# Altium footprint library PCBLib.PcbLib: 168 footprints (part 8 of 11)
Each footprint in its own frame and in the unit in brackets; x right, y up, seen from the top. Pads: shape width x height; smd on the part's side, far side on the other; paste and mask are expansions set on the pad; w line width, h text height; cw(c..) or ccw(c..) is an arc to the next point about the centre after c.
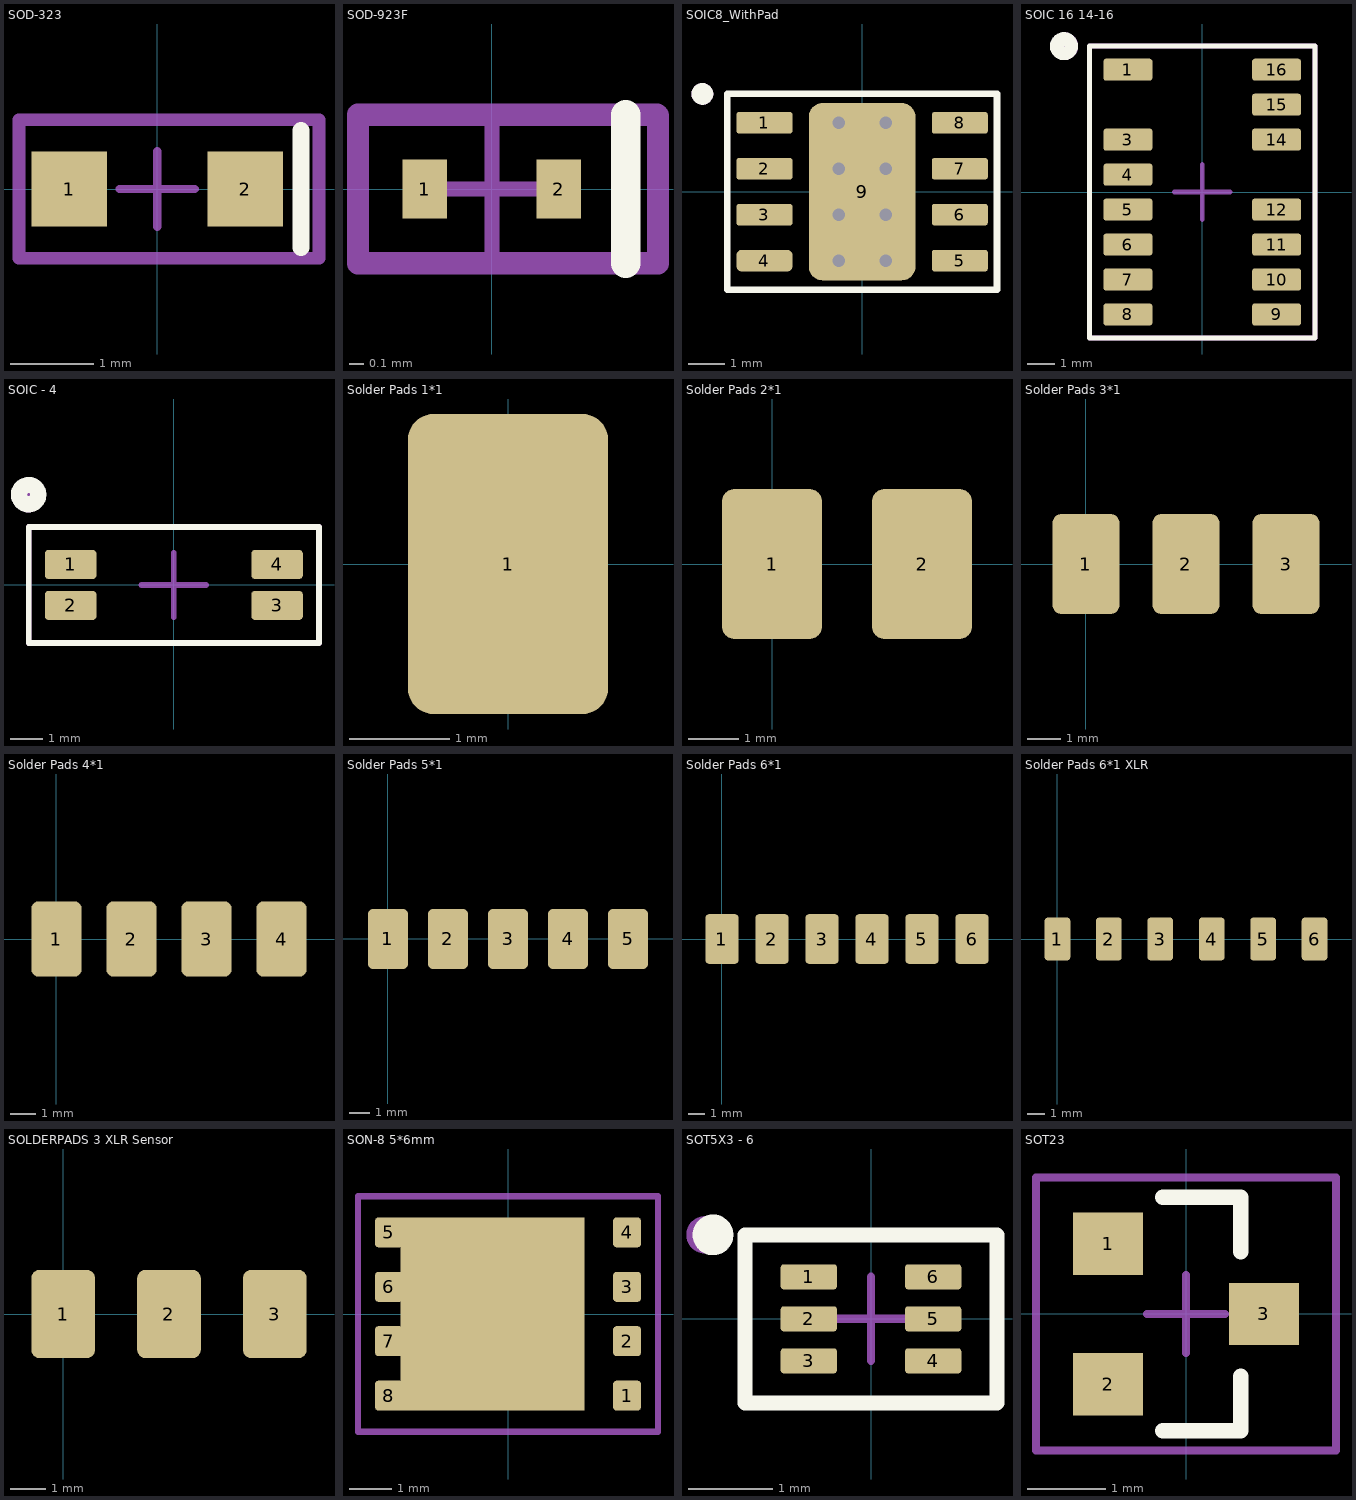
[diagram p7: the footprints below, top view; thin cyan lines are the x and y axes]

## SOD-323 [mm]
pads (2):
  rect 0.9x0.9 smd mask+0.05: 1(-1.05,0) 2(1.05,0)
Top Overlay:
  lines w0.2: 1.717,-0.7 1.717,0.275 1.717,0.7
Top Assembly:
  lines w0.15: 1.725,0.825 1.933,0.825 1.933,-0.825 1.717,-0.825 ; 1.717,-0.825 -1.65,-0.825 -1.65,0.825 1.717,0.825 1.717,-0.825
Top Component Center:
  lines w0.1: -0.45,0 0.45,0 ; 0,-0.45 0,0.45
Top Courtyard:
  lines w0.05: -1.65,-0.825 -1.65,0.825 1.717,0.825 1.717,-0.825 -1.65,-0.825
Top Designator:
  text ".Designator" at -3.809,-0.254 h0.76
3D body "SOD323_DIO.step": height 1.2, standoff 0, extent -1.346,-0.698 1.346,0.698

## SOD-923F [mm] "SODFL, 2-Leads, Body 0.60x1.00mm, IPC Medium Density"
height 0.4
pads (2):
  rect 0.3x0.4 smd: 1(-0.45,0) 2(0.45,0)
Top Overlay:
  lines w0.2: 0.9,-0.5 0.9,0.5
Top Assembly:
  lines w0.15: 0.9,-0.5 1.117,-0.5 1.117,0.493 1.11,0.5 0.9,0.5 ; 0.9,-0.5 0.9,0.5 ; 0.9,-0.5 -0.9,-0.5 -0.9,0.5 0.9,0.5
Top Component Center:
  lines w0.1: -0.5,0 0.5,0 ; 0,-0.5 0,0.5
Top Courtyard:
  lines w0.05: -0.9,-0.5 0.9,-0.5 0.9,0.5 -0.9,0.5 -0.9,-0.5
Top Designator:
  text ".Designator" at -3.809,-0.254 h0.76
3D body "CPDQ.step": height 0.82, standoff 0, extent -0.521,-0.33 0.521,0.33

## SOIC8_WithPad [mm] "LV14360"
pads (9):
  rrect25% 1.55x0.6 smd mask+0.05: 1(-2.7,1.905) 2(-2.7,0.635) 3(-2.7,-0.635) 5(2.7,-1.905) 6(2.7,-0.635) 7(2.7,0.635) 8(2.7,1.905)
  rrect50% 1.55x0.6 smd mask+0.05: 4(-2.7,-1.905)
  rrect25% 2.95x4.9 smd paste-2539.97 mask-2539.97: 9(0,0)
via -0.65,-1.905 diameter 0.7 hole 0.35
via 0.65,-1.905 diameter 0.7 hole 0.35
via 0.65,-0.635 diameter 0.7 hole 0.35
via -0.65,-0.635 diameter 0.7 hole 0.35
via -0.65,0.635 diameter 0.7 hole 0.35
via 0.65,0.635 diameter 0.7 hole 0.35
via 0.65,1.905 diameter 0.7 hole 0.35
via -0.65,1.905 diameter 0.7 hole 0.35
Top Overlay:
  circle w0.3: c-4.416,2.704 r0.15
  lines w0.18: -3.729,-2.704 3.729,-2.704 3.729,2.704 -3.729,2.704 -3.729,-2.704
Top Paste:
  region: -1.355,-1.7 -1.355,1.7 1.355,1.7 1.355,-1.7
Top Solder:
  region: -1.355,-1.7 -1.355,1.7 1.355,1.7 1.355,-1.7
Top Assembly:
  circle w0.3: c-4.416,2.704 r0.15
  lines w0.1: -3.729,-2.704 3.729,-2.704 3.729,2.704 -3.729,2.704 -3.729,-2.704
Top Component Center:
  lines w0.1: -0.5,0 0.5,0 ; 0,-0.5 0,0.5
Top Courtyard:
  lines w0.05: -3.729,-2.704 3.729,-2.704 3.729,2.704 -3.729,2.704 -3.729,-2.704
Top Designator:
  text ".Designator" at -3.809,-0.254 h0.76
3D body "AS5600L-ASOM_AMS.step": height 1.76, standoff 0, extent -3,-2.451 3,2.451

## SOIC 16 14-16 [mm]
pads (14):
  rrect25% 1.78x0.8 smd: 1(-2.7,4.445) 3(-2.7,1.905) 4(-2.7,0.635) 5(-2.7,-0.635) 6(-2.7,-1.905) 7(-2.7,-3.175) 8(-2.7,-4.445) 9(2.7,-4.445) 10(2.7,-3.175) 11(2.7,-1.905) 12(2.7,-0.635) 14(2.7,1.905) 15(2.7,3.175) 16(2.7,4.445)
Top Overlay:
  circle w0.5: c-5.019,5.3 r0.261
  lines w0.18: -4.1,-5.3 4.1,-5.3 4.1,5.3 -4.1,5.3 -4.1,-5.3
Top Assembly:
  circle w0.5: c-5.002,5.3 r0.244
  lines w0.18: -4.1,-5.3 -4.1,5.3 4.1,5.3 4.1,-5.3 -4.1,-5.3
Top Component Center:
  lines w0.18: -1,0 1,0 ; 0,-1 0,1
Top Courtyard:
  lines w0.05: -4.1,-5.3 -4.1,5.3 4.1,5.3 4.1,-5.3 -4.1,-5.3
Top Designator:
  text ".Designator" at -3.809,-0.254 h0.76
3D body "DDB0014A.stp": height 1.75, standoff 0, extent -3.013,-4.95 3.013,4.95

## SOIC - 4 [mm]
pads (4):
  rrect25% 1.6x0.9 smd mask+0.05: 1(-3.2,0.635) 2(-3.2,-0.635) 3(3.2,-0.635) 4(3.2,0.635)
Top Overlay:
  circle w0.5: c-4.5,2.801 r0.299
  lines w0.18: -4.5,-1.8 -4.5,1.8 4.5,1.8 4.5,-1.8 -4.5,-1.8
Top Assembly:
  circle w0.5: c-4.5,2.651 r0.15
  lines w0.18: -4.5,-1.8 4.5,-1.8 4.5,1.8 -4.5,1.8 -4.5,-1.8
Top Component Center:
  lines w0.18: -1,0 1,0 ; 0,-1 0,1
Top Courtyard:
  lines w0.05: -4.5,-1.8 4.5,-1.8 4.5,1.8 -4.5,1.8 -4.5,-1.8
Top Designator:
  text ".Designator" at -3.809,-0.254 h0.76
3D body "SSOP4_4P40X2P85_VIS.step": height 2.39, standoff 0, extent -3.448,-1.422 3.448,1.422

## Solder Pads 1*1 [mm]
pads (1):
  rrect25% 2x3 smd mask+0.05: 1(0,0)

## Solder Pads 2*1 [mm]
pads (2):
  rrect25% 2x3 smd mask+0.05: 1(0,0) 2(3,0)

## Solder Pads 3*1 [mm]
pads (3):
  rrect25% 2x3 smd mask+0.05: 1(0,0) 2(3,0) 3(6,0)

## Solder Pads 4*1 [mm]
pads (4):
  rrect25% 2x3 smd mask+0.05: 1(0,0) 2(3,0) 3(6,0) 4(9,0)

## Solder Pads 5*1 [mm]
pads (5):
  rrect25% 2x3 smd mask+0.05: 1(0,0) 2(3,0) 3(6,0) 4(9,0) 5(12,0)

## Solder Pads 6*1 [mm]
pads (6):
  rrect25% 2x3 smd mask+0.05: 1(0,0) 2(3,0) 3(6,0) 4(9,0) 5(12,0) 6(15,0)

## Solder Pads 6*1 XLR [mm]
pads (6):
  rrect25% 1.5x2.5 smd mask+0.05: 1(0,0) 2(3,0) 3(6,0) 4(9,0) 5(12,0) 6(15,0)

## SOLDERPADS 3 XLR Sensor [mm]
pads (3):
  rrect25% 1.8x2.5 smd mask+0.05: 1(0,0) 2(3,0) 3(6,0)

## SON-8 5*6mm [mm]
pads (9):
  rrect25% 0.65x0.7 smd mask+0.05: 1(2.778,-1.905) 2(2.778,-0.635) 3(2.778,0.635) 4(2.778,1.905) 5(-2.778,1.905) 6(-2.778,0.635) 7(-2.778,-0.635) 8(-2.778,-1.905)
  rect 4.3x4.51 smd mask+0.05: ""(-0.361,0)
Top Assembly:
  lines w0.15: -3.5,-2.75 3.5,-2.75 3.5,2.75 -3.5,2.75 -3.5,-2.75
Top Component Center:
  lines w0.15: -1,0 1,0 ; 0,-1 0,1
Top Courtyard:
  lines w0.05: -3.5,-2.75 3.5,-2.75 3.5,2.75 -3.5,2.75 -3.5,-2.75
3D body "DQJ0008A.stp": height 1.15, standoff 0, extent -3.117,-2.45 3.143,2.45

## SOT5X3 - 6 [mm]
pads (6):
  rrect25% 0.67x0.3 smd mask+0.05: 1(-0.74,0.5) 2(-0.74,0) 3(-0.74,-0.5) 4(0.74,-0.5) 5(0.74,0) 6(0.74,0.5)
Top Overlay:
  circle w0.254: c-1.881,1 r0.115
  lines w0.18: -1.5,-1 -1.5,1 1.5,1 1.5,-1 -1.5,-1
Top Assembly:
  circle w0.254: c-1.976,1 r0.095
  lines w0.1: -1.5,-1 -1.5,1 1.5,1 1.5,-1 -1.5,-1
Top Component Center:
  lines w0.1: -0.5,0 0.5,0 ; 0,-0.5 0,0.5
Top Courtyard:
  lines w0.05: -1.5,-1 -1.5,1 1.5,1 1.5,-1 -1.5,-1
Top Designator:
  text ".Designator" at -3.803,-0.254 h0.76
3D body "TPS562203DRLR.STEP": height 0.6, standoff 0, extent -0.8,-0.8 0.8,0.8

## SOT23 [mm]
height 1.1
pads (3):
  rect 0.9x0.8 smd: 1(-1,0.9) 2(-1,-0.9) 3(1,0)
Top Overlay:
  lines w0.2: -0.3,-1.5 0.7,-1.5 0.7,-0.8 ; -0.3,1.5 0.7,1.5 0.7,0.8
Top Assembly:
  lines w0.1: -1.925,-1.75 -1.925,1.75 1.925,1.75 1.925,-1.75 -1.925,-1.75
Top Component Center:
  lines w0.1: -0.5,0 0.5,0 ; 0,-0.5 0,0.5
Top Courtyard:
  lines w0.05: -1.925,-1.75 -1.925,1.75 1.925,1.75 1.925,-1.75 -1.925,-1.75
Top Designator:
  text ".Designator" at -0.254,3.809 h0.76
3D body "SOT23.stp": height 0.99, standoff -0.04, extent -1.225,-1.475 1.19,1.425